# EAGLE library part IC_ULN2003 (library Batteriehalter - 18650)
7 Darlington Array Driver
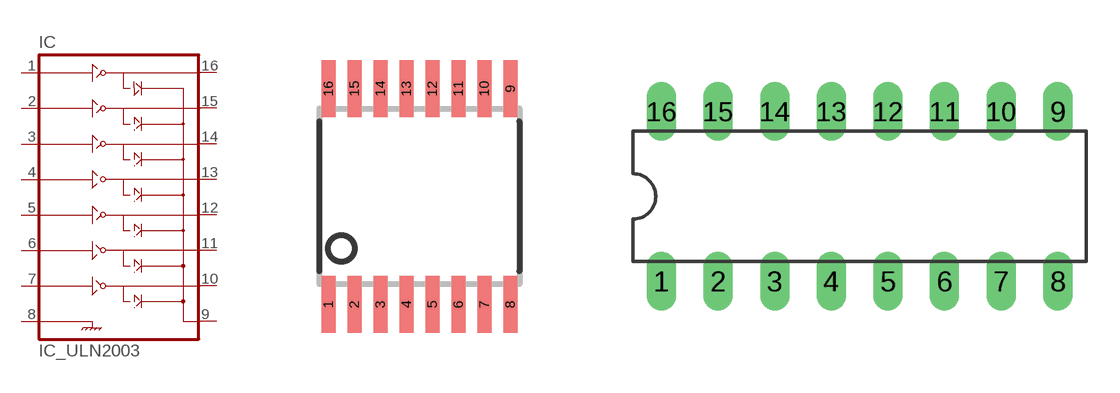
[diagram p0: symbol with the pads of TSSOP-16; footprints TSSOP-16, DIL16]

Designator prefix IC

## IC_ULN2003-TSSOP-16  [TSSOP-16]
1  1B
2  2B
3  3B
4  4B
5  5B
6  6B
7  7B
8  GND
9  COM
10  7C
11  6C
12  5C
13  4C
14  3C
15  2C
16  1C

## IC_ULN2003DIL16  [DIL16]
Pads as for TSSOP-16

## Footprint TSSOP-16 (pad centres in mm)
smd 0.35 x 1.43: 1 -2.275,-2.7; 2 -1.625,-2.7; 3 -0.975,-2.7; 4 -0.325,-2.7; 5 0.325,-2.7; 6 0.975,-2.7; 7 1.625,-2.7; 8 2.275,-2.7; 9 2.275,2.7; 10 1.625,2.7; 11 0.975,2.7; 12 0.325,2.7; 13 -0.325,2.7; 14 -0.975,2.7; 15 -1.625,2.7; 16 -2.275,2.7

## Footprint DIL16 (pad centres in mm)
DIL-16
drill 0.813 long: 1 -8.89,-3.81; 2 -6.35,-3.81; 3 -3.81,-3.81; 4 -1.27,-3.81; 5 1.27,-3.81; 6 3.81,-3.81; 7 6.35,-3.81; 8 8.89,-3.81; 9 8.89,3.81; 10 6.35,3.81; 11 3.81,3.81; 12 1.27,3.81; 13 -1.27,3.81; 14 -3.81,3.81; 15 -6.35,3.81; 16 -8.89,3.81